# EAGLE library part ADS1230IPW (library MAÑE)
20-Bit ADC
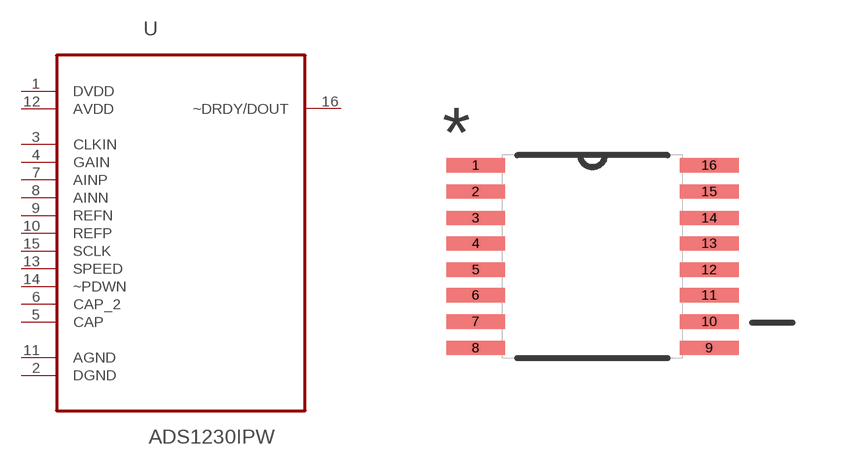
[diagram p25: symbol with the pads of SOP65P640X120-16N; footprint SOP65P640X120-16N]

Designator prefix U

## ADS1230IPW (MPN: ADS1230IPW; OC_FARNELL: 1390672; OC_NEWARK: 21M9189; PACKAGE: TSSOP-16; SUPPLIER: Texas Instruments)  [SOP65P640X120-16N]
1  DVDD  pwr
2  DGND  pas
3  CLKIN  in
4  GAIN  in
5  CAP  in
6  CAP_2  in
7  AINP  in
8  AINN  in
9  REFN  in
10  REFP  in
11  AGND  pas
12  AVDD  pwr
13  SPEED  in
14  ~PDWN  in
15  SCLK  in
16  ~DRDY/DOUT  out

## Footprint SOP65P640X120-16N (pad centres in mm)
smd 1.473 x 0.356: 1 -2.921,2.286; 2 -2.921,1.626; 3 -2.921,0.965; 4 -2.921,0.33; 5 -2.921,-0.33; 6 -2.921,-0.965; 7 -2.921,-1.626; 8 -2.921,-2.286; 9 2.921,-2.286; 10 2.921,-1.626; 11 2.921,-0.965; 12 2.921,-0.33; 13 2.921,0.33; 14 2.921,0.965; 15 2.921,1.626; 16 2.921,2.286